# EAGLE library part 2.4_TFT_SPI (library 2.4_tft_spi)
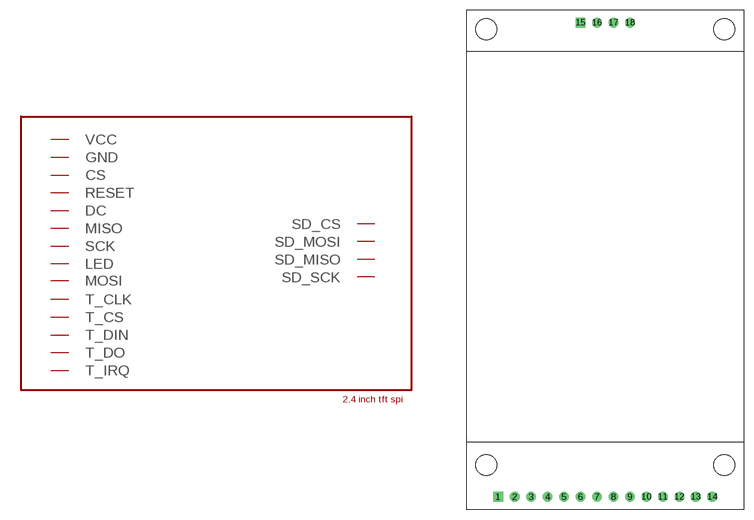
[diagram p0: symbol with the pads of 2.4_tft_spi; footprint 2.4_tft_spi]

Designator prefix -

## 2.4_TFT_SPI  [2.4_tft_spi]
1  VCC  nc
2  GND  nc
3  CS  nc
4  RESET  nc
5  DC  nc
6  MISO  nc
7  SCK  nc
8  LED  nc
9  MOSI  nc
10  T_CLK  nc
11  T_CS  nc
12  T_DIN  nc
13  T_DO  nc
14  T_IRQ  nc
15  SD_CS  nc
16  SD_MOSI  nc
17  SD_MISO  nc
18  SD_SCK  nc

## Footprint 2.4_tft_spi (pad centres in mm)
drill 0.9 pad 1.5 square: 1 -33.02,0.75; 15 -20.31,73.93
drill 0.9 pad 1.5: 2 -30.48,0.75; 3 -27.94,0.75; 4 -25.4,0.75; 5 -22.86,0.75; 6 -20.32,0.75; 7 -17.78,0.75; 8 -15.24,0.75; 9 -12.7,0.75; 10 -10.16,0.75; 11 -7.62,0.75; 12 -5.08,0.75; 13 -2.54,0.75; 14 0,0.75; 16 -17.77,73.93; 17 -15.23,73.93; 18 -12.69,73.93
hole 3.2 at 1.85,5.67
hole 3.2 at -34.87,5.67
hole 3.2 at 1.85,72.93
hole 3.2 at -34.87,72.93